# Altium schematic symbol library Crystals.SchLib: 3 symbols
Pins are listed as number, name and electrical type; pins without a type are passive.

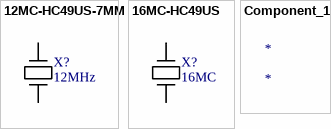
[diagram p0: symbols 12MC-HC49US-7MM to Component_1]

## 12MC-HC49US-7MM
designator X?, comment 12MHz
12MHz CRYSTAL HC49US SHORT BODY; Supplier 1: Mouser; Supplier Part Number 1: 520-120-20-3XT
footprint XTAL-HC49US-7MM (Footprint not found)
pins: 1, 2

## 16MC-HC49US
designator X?, comment 16MC
16MHZ CRSYTAL HC49US; Supplier 1: Mouser; Supplier Part Number 1: 815-ABLS-16.0M-T
footprint XTAL-RU49/4
pins: 1, 2

## Component_1
designator *